# EAGLE library part ESP07-16PIN (library innove-microcontrollers)
Espressif ESP-07S WiFi-compatible SoC microcontroller. 16 GPIO pins User Guide <https://www.tinyosshop.com/datasheet/ESP-07S_User_Manual.pdf>
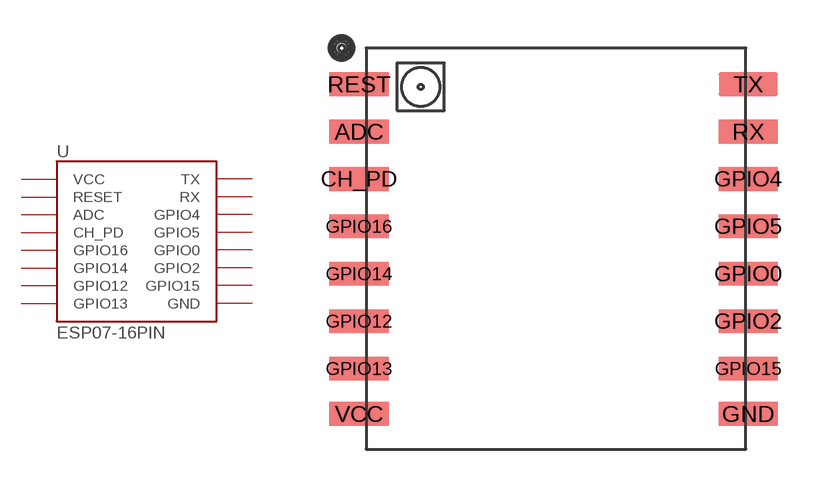
[diagram p5: symbol with the pads of ESP07; footprint ESP07]

Designator prefix -

## ESP07-16PIN (PROD_ID: IC-13915)  [ESP07]
ADC  ADC
CH_PD  CH_PD
GND  GND
GPIO0  GPIO0
GPIO2  GPIO2
GPIO4  GPIO4
GPIO5  GPIO5
GPIO12  GPIO12
GPIO13  GPIO13
GPIO14  GPIO14
GPIO15  GPIO15
GPIO16  GPIO16
REST  RESET
RX  RX
TX  TX
VCC  VCC

## Footprint ESP07 (pad centres in mm)
smd 2.5 x 1: ADC -8.026,3.841; CH_PD -8.026,1.841; GND 8.374,-8.064; GPIO0 8.374,-2.159; GPIO2 8.374,-4.159; GPIO4 8.374,1.841; GPIO5 8.374,-0.159; GPIO12 -8.026,-4.159; GPIO13 -8.026,-6.159; GPIO14 -8.026,-2.159; GPIO15 8.374,-6.159; GPIO16 -8.026,-0.159; REST -8.026,5.841; RX 8.374,3.841; TX 8.374,5.841; VCC -8.026,-8.064